# Altium footprint library PCB_2020-12-27_16-28-50_2021-02-20_20-59-34.PcbLib: 20 footprints (part 1 of 2)
Each footprint in its own frame and in the unit in brackets; x right, y up, seen from the top. Pads: shape width x height; smd on the part's side, far side on the other; paste and mask are expansions set on the pad; w line width, h text height; cw(c..) or ccw(c..) is an arc to the next point about the centre after c.
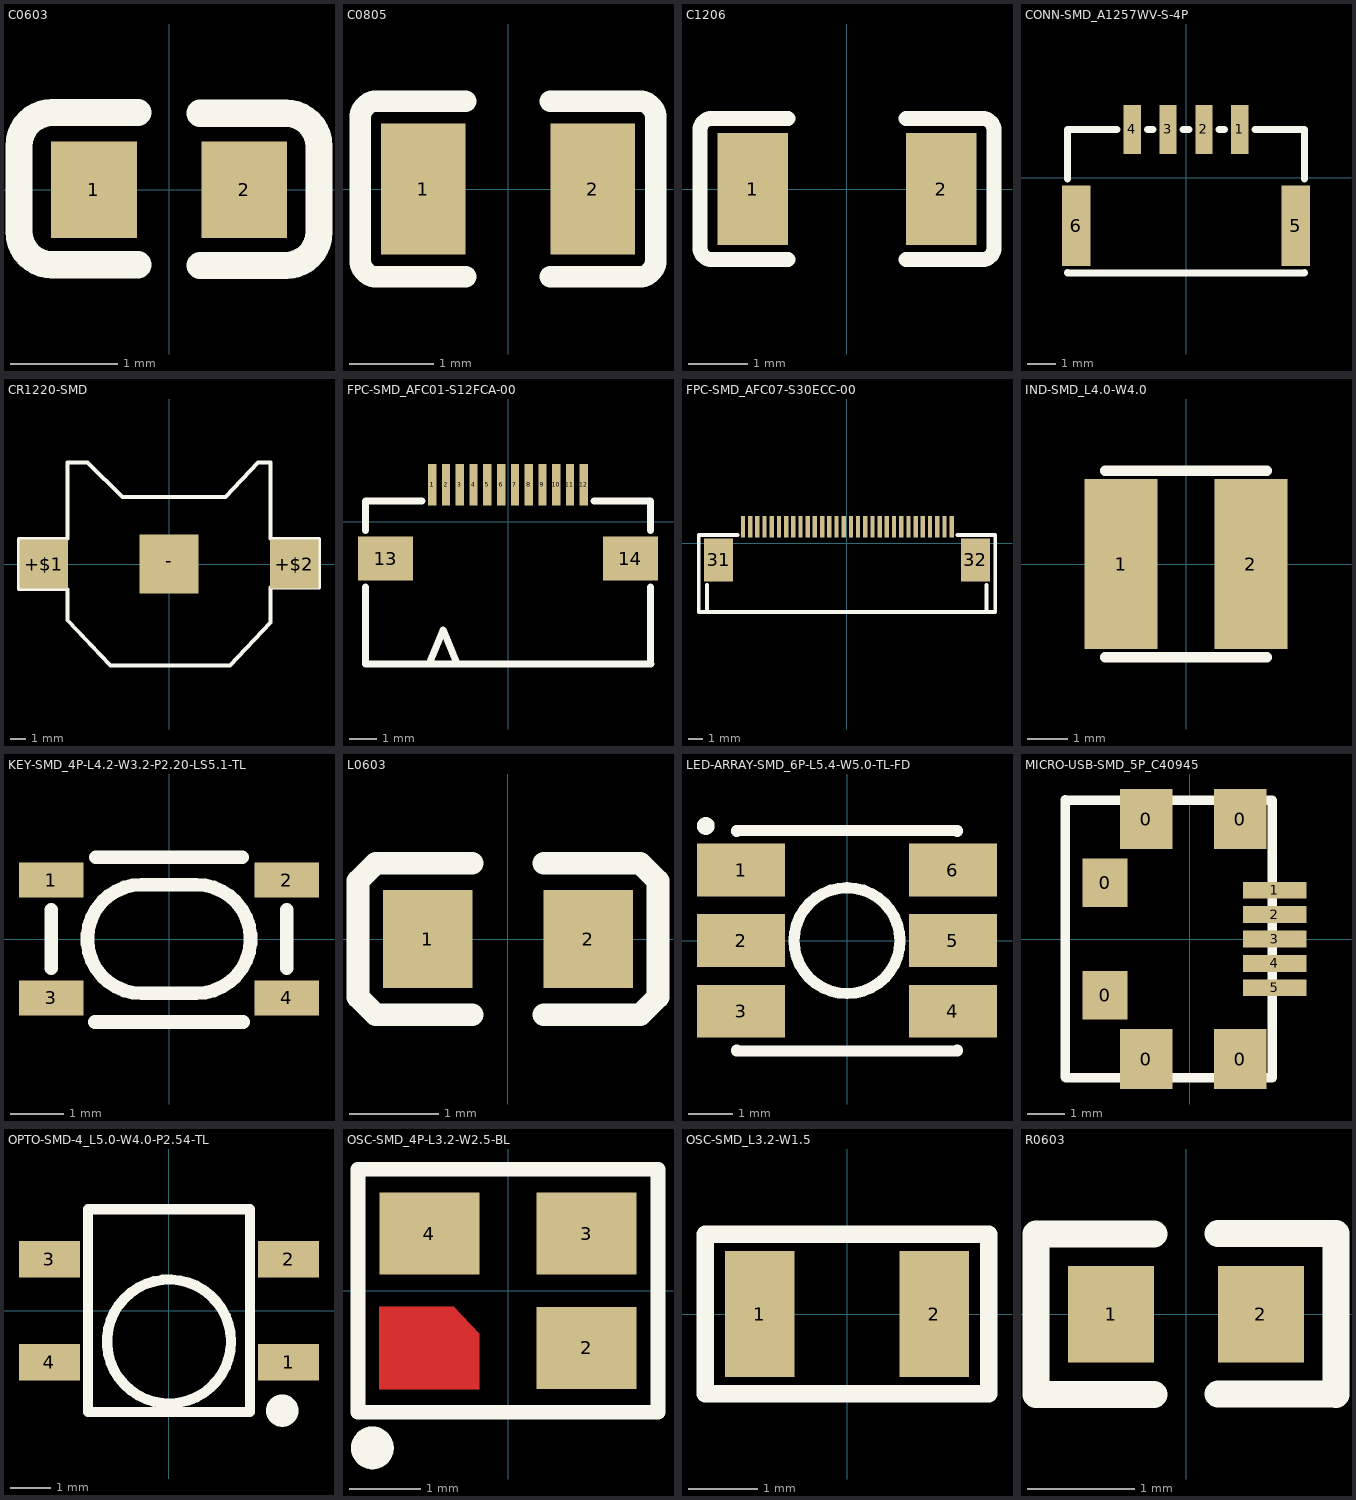
[diagram p0: the footprints below, top view; thin cyan lines are the x and y axes]

## C0603 [mm]
pads (2):
  rect 0.8x0.9 smd: 1(-0.7,0) 2(0.7,0)
Top Overlay:
  lines w0.254: -0.289,-0.698 -1.089,-0.698 cw(c-1.089,-0.388) -1.399,-0.388 -1.398,0.412 cw(c-1.089,0.412) -1.089,0.722 -0.289,0.722 ; 0.287,-0.704 1.087,-0.704 ccw(c1.087,-0.394) 1.397,-0.394 1.397,0.406 ccw(c1.087,0.406) 1.087,0.716 0.287,0.716
3D body "c0603x104k3ractu.stp": height 0.95, standoff 0, extent -0.874,-0.465 0.895,0.485

## C0805 [mm]
pads (2):
  rect 1x1.55 smd: 1(-1,0) 2(1,0)
Top Overlay:
  lines w0.254: -1.75,0.82 -1.75,0.8 ; -0.5,-1.04 -1.55,-1.04 cw(c-1.55,-0.84) -1.75,-0.84 -1.75,-0.8 -1.75,0.8 ; -0.5,1.04 -1.55,1.04 ccw(c-1.55,0.84) -1.75,0.84 -1.75,0.8 ; 0.5,-1.04 1.55,-1.04 ccw(c1.55,-0.84) 1.75,-0.84 1.75,-0.8 1.75,0.8 1.75,0.84 ccw(c1.55,0.84) 1.55,1.04 0.5,1.04
3D body "c0805c101k5gactu.stp": height 0.88, standoff 0, extent -1.045,-0.71 1.155,0.74

## C1206 [mm]
pads (2):
  rect 1.2x1.9 smd: 1(-1.6,0) 2(1.6,0)
Top Overlay:
  lines w0.254: -1,-1.2 -2.2,-1.2 -2.3,-1.2 cw(c-2.3,-1) -2.5,-1 -2.5,1 cw(c-2.3,1) -2.3,1.2 -2.2,1.2 -1,1.2 ; 1,-1.2 2.2,-1.2 2.3,-1.2 ccw(c2.3,-1) 2.5,-1 2.5,1 ccw(c2.3,1) 2.3,1.2 2.2,1.2 1,1.2
3D body "c1206x223j2gacauto.stp": height 1.8, standoff 0, extent -1.826,-0.988 1.874,0.962

## CONN-SMD_A1257WV-S-4P [mm]
pads (6):
  rect 0.6x1.7 smd: 1(1.875,1.675) 2(0.625,1.675) 3(-0.625,1.675) 4(-1.875,1.675)
  rect 1x2.8 smd: 5(3.825,-1.675) 6(-3.825,-1.675)
Top Overlay:
  lines w0.254: -4.125,-3.306 -4.125,-3.325 4.125,-3.325 4.125,-3.306 ; -4.125,-0.044 -4.125,1.675 -2.406,1.675 ; -1.344,1.675 -1.156,1.675 ; -0.094,1.675 0.094,1.675 ; 1.156,1.675 1.344,1.675 ; 2.406,1.675 4.125,1.675 4.125,-0.044
3D body "User Library-SM04B-GHS-TB.step": height 4.25, standoff -0.1, extent -4.125,-2.667 4.125,2.183

## CR1220-SMD [mil]
pads (3):
  rect 126x126 smd: +$1(-323,0) +$2(323,0)
  rect 153.5x153.5 smd: -(0,0)
Top Overlay:
  circle w10: c-325,0 r36
  circle w10: c331,6 r36
  lines w10: -387,-65 -262,-65 -262,-145 -151,-262 157,-262 262,-151 262,-61 387,-61 387,65 262,65 262,262 230,262 146,173 -120,173 -210,262 -262,262 -262,65 -387,65 -387,-65
3D body "User Library-BK-885-TR.step": height 124.8, standoff 0, extent -385.03,-250 385.05,250

## FPC-SMD_AFC01-S12FCA-00 [mil]
pads (14):
  rect 11.9x59.1 smd: 1(-108.28,52.78) 8(29.52,52.78)
  rect 11.8x59.1 smd: 2(-88.63,52.78) 3(-68.93,52.78) 4(-49.23,52.78) 5(-29.53,52.78) 6(-9.83,52.78) 7(9.87,52.78) 9(49.17,52.78) 10(68.87,52.78) 11(88.57,52.78) 12(108.27,52.78)
  rect 78.7x63 smd: 13(-175.2,-52.77) 14(175.2,-52.77)
Top Overlay:
  lines w10: -112.4,-202.55 -92.71,-154.91 -73.42,-202.16 ; 204.75,-203.17 -203.93,-203.17 ; -203.93,-203.17 -203.93,-93.37 -203.93,-203.17 ; -203.93,29.93 -203.93,-12.17 -203.93,29.93 ; -203.93,29.93 -123.33,29.93 -203.93,29.93 ; 203.95,29.93 203.95,-12.17 203.95,29.93 ; 203.95,29.93 123.27,29.93 203.95,29.93 ; 203.95,-203.17 203.95,-93.37 203.95,-203.17
3D body "52746-1290.stp": height 78.74, standoff 0, extent -238.18,-227.28 238.2,32.57

## FPC-SMD_AFC07-S30ECC-00 [mm]
pads (32):
  rect 0.3x1.5 smd: 1(7.27,1.153) 2(6.77,1.153) 3(6.27,1.153) 4(5.77,1.153) 5(5.27,1.153) 6(4.77,1.153) 7(4.27,1.153) 8(3.77,1.153) 9(3.27,1.153) 10(2.77,1.153) 11(2.27,1.153) 12(1.77,1.153) 13(1.27,1.153) 14(0.77,1.153) 15(0.274,1.155) 16(-0.229,1.154) 17(-0.729,1.153) 18(-1.229,1.153) 19(-1.729,1.153) 20(-2.231,1.156) 21(-2.731,1.156) 22(-3.231,1.156) 23(-3.731,1.156) 24(-4.232,1.156) 25(-4.731,1.156) 26(-5.232,1.157) 27(-5.732,1.157) 28(-6.232,1.156) 29(-6.731,1.157) 30(-7.232,1.157)
  rect 2x3 smd: 31(-8.925,-1.157) 32(8.925,-1.157)
Top Overlay:
  lines w0.254: -10.305,-4.777 10.295,-4.777 ; -10.305,-4.777 -10.305,0.573 -7.613,0.573 ; -9.725,-4.777 -9.725,-2.888 ; 7.651,0.573 10.295,0.573 ; 9.699,-4.778 9.699,-2.896 ; 10.295,-4.787 10.295,0.563
3D body "3-1734839-0.stp": height 2.04, standoff -0.01, extent -10.215,-4.328 10.215,0.782

## IND-SMD_L4.0-W4.0 [mm]
pads (2):
  rect 1.8x4.2 smd: 1(-1.6,0) 2(1.6,0)
Top Overlay:
  lines w0.254: -2,-2.3 2,-2.3 ; -2,2.3 2,2.3

## KEY-SMD_4P-L4.2-W3.2-P2.20-LS5.1-TL [mm]
pads (4):
  rect 1.2x0.65 smd: 1(-2.2,1.1) 2(2.2,1.1) 3(-2.2,-1.1) 4(2.2,-1.1)
Top Overlay:
  lines w0.254: -2.2,-0.544 -2.2,0.544 ; -1.381,-1.55 1.381,-1.55 ; -1.366,1.524 1.366,1.524 ; 2.2,-0.544 2.2,0.544 ; -0.508,-1.016 cw(c-0.508,0) -0.508,1.016 0.508,1.016 cw(c0.508,0) 0.508,-1.016 -0.508,-1.016
3D body "skrpace010.stp": height 2.5, standoff 0, extent -2.3,-1.6 2.3,1.6

## L0603 [mm]
pads (2):
  rect 1x1.1 smd: 1(-0.9,0) 2(0.9,0)
Top Overlay:
  lines w0.254: -0.4,-0.85 -1.48,-0.85 -1.68,-0.65 -1.68,-0.62 -1.68,0.62 -1.68,0.65 -1.48,0.85 -0.4,0.85 ; 0.4,-0.85 1.48,-0.85 1.68,-0.65 1.68,-0.62 1.68,0.62 1.68,0.65 1.48,0.85 0.4,0.85
3D body "CircuitWorks-RESISTOR 0603.step": height 0.48, standoff -0.03, extent -0.8,-0.43 0.8,0.43

## LED-ARRAY-SMD_6P-L5.4-W5.0-TL-FD [mm]
pads (6):
  rect 2x1.2 smd: 1(-2.4,1.6) 2(-2.4,0) 3(-2.4,-1.6) 4(2.4,-1.6) 5(2.4,0) 6(2.4,1.6)
Top Overlay:
  circle w0.254: c0,0 r1.2
  circle w0.254: c-3.2,2.6 r0.075
  lines w0.254: -2.5,-2.481 -2.5,-2.5 2.5,-2.5 2.5,-2.481 ; -2.5,2.481 -2.5,2.5 2.5,2.5 2.5,2.481
3D body "User Library-WS2813_3535.step": height 0.95, standoff 0, extent -1.8,-1.75 1.8,1.75

## MICRO-USB-SMD_5P_C40945 [mil]
pads (11):
  rect 47.3x51.1 smd: 0(-89.03,-59.05)
  rect 47.3x51.2 smd: 0(-89.03,59.1)
  rect 55.1x63 smd: 0(-45.73,-126) 0(-45.73,126) 0(52.67,-126) 0(52.67,126)
  rect 67x17.8 smd: 1(89.03,51.2) 2(89.03,25.6) 3(89.03,0) 4(89.03,-25.6) 5(89.03,-51.2)
Top Overlay:
  lines w10: -130.78,-145.3 -130.78,146.1 ; -130.38,-145.7 86.52,-145.7 86.52,145.7 -130.38,145.7
3D body "User Library-micro usb SMD.step": height 106.3, standoff 0, extent -113.54,-152.08 83.31,155

## OPTO-SMD-4_L5.0-W4.0-P2.54-TL [mm]
pads (4):
  rect 1.5x0.9 smd: 1(2.95,-1.27) 2(2.95,1.27) 3(-2.95,1.27) 4(-2.95,-1.27)
Top Overlay:
  circle w0.254: c0,-0.762 r1.529
  lines w0.254: -2,-2.5 -2,2.5 2,2.5 2,-2.5 -2,-2.5
  lines w0.4: 2.791,-2.667 cw(c2.793,-2.467) 2.794,-2.667

## OSC-SMD_4P-L3.2-W2.5-BL [mm]
pads (3):
  rect 1.4x1.15 smd: 2(1.1,-0.8) 3(1.1,0.8) 4(-1.1,0.8)
Top Layer:
  region: -1.8,-0.225 -0.762,-0.225 -0.4,-0.604 -0.4,-1.375 -1.8,-1.375
Top Overlay:
  lines w0.203: -2.1,-1.7 -2.1,1.7 2.1,1.7 2.1,-1.7 -2.1,-1.7
  lines w0.3: -1.9,-2.05 ccw(c-1.899,-2.2) -1.897,-2.05
Top Paste:
  region: -1.8,-0.225 -0.762,-0.225 -0.4,-0.604 -0.4,-1.375 -1.8,-1.375
Top Solder:
  region: -1.8,-0.225 -0.762,-0.225 -0.4,-0.604 -0.4,-1.375 -1.8,-1.375
3D body "User Library-SMD-3225_4P.step": height 1.05, standoff 0, extent -1.6,-1.25 1.6,1.25

## OSC-SMD_L3.2-W1.5 [mm]
pads (2):
  rect 1x1.8 smd: 1(-1.25,0) 2(1.25,0)
Top Overlay:
  lines w0.254: -2.032,-1.143 2.032,-1.143 2.032,1.143 -2.032,1.143 -2.032,-1.143
3D body "crystal_rtf3215.stp": height 0.9, standoff -0.01, extent -1.6,-0.75 1.6,0.75

## R0603 [mm]
pads (2):
  rect 0.8x0.9 smd: 1(-0.7,0) 2(0.7,0)
Top Overlay:
  lines w0.254: -1.401,-0.75 -0.3,-0.75 ; -1.401,0.75 -0.3,0.75 ; -1.4,-0.75 -1.4,0.75 ; 0.301,-0.745 1.401,-0.745 ; 0.301,0.755 1.401,0.755 ; 1.401,-0.75 1.401,0.75
3D body "User Library-Res-0603.step": height 0.42, standoff 0, extent -0.8,-0.4 0.8,0.4